# Altium schematic symbol library WE-LPCC.SchLib: 5 symbols
Pins are listed as number, name and electrical type; pins without a type are passive.

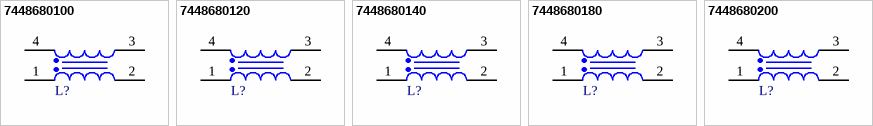
[diagram p0: symbols 7448680100 to 7448680200]

## 7448680100
designator L?, comment 450µH  (value not drawn)
WE-LPCC THT Common Mode Power Line Choke, 450µH, 9.5A, 9.6mΩ; Manufacturer Part Number: 7448680100; Manufacturer: Wurth Elektronik; Insulation Test Voltage (AC): 1500V; Material: MnZn; Rated Voltage (AC): 250V; ComponentLink1Description: Manufacturer Link; ComponentLink1URL: https://www.we-online.com/redexpert/article/7448680100?ad; ComponentLink2Description: Datasheet; ComponentLink2URL: https://www.we-online.com/redexpert/spec/7448680100?ad; Category: Common Mode Chokes; Match Code: WE-LPCC; Mount: Through Hole; Operating Temperature Max: 115°C; Operating Temperature Min: -40°C; Packaging: Tray; Length: 27.5mm; Width: 25mm; Height: 9.7mm; DC Resistance Max: 9.6mΩ; Inductance: 450µH; Rated Current: 9.5A
footprint 7448680100
pins: 1, 2, 3, 4

## 7448680120
designator L?, comment 330µH  (value not drawn)
WE-LPCC THT Common Mode Power Line Choke, 330µH, 12A, 6mΩ; Manufacturer Part Number: 7448680120; Manufacturer: Wurth Elektronik; Insulation Test Voltage (AC): 1500V; Material: MnZn; Rated Voltage (AC): 250V; ComponentLink1Description: Manufacturer Link; ComponentLink1URL: https://www.we-online.com/redexpert/article/7448680120?ad; ComponentLink2Description: Datasheet; ComponentLink2URL: https://www.we-online.com/redexpert/spec/7448680120?ad; Category: Common Mode Chokes; Match Code: WE-LPCC; Mount: Through Hole; Operating Temperature Max: 115°C; Operating Temperature Min: -40°C; Packaging: Tray; Length: 27.5mm; Width: 25mm; Height: 10mm; DC Resistance Max: 6mΩ; Inductance: 330µH; Rated Current: 12A
footprint 7448680120
pins: 1, 2, 3, 4

## 7448680140
designator L?, comment 230µH  (value not drawn)
WE-LPCC THT Common Mode Power Line Choke, 230µH, 16A, 3.6mΩ; Manufacturer Part Number: 7448680140; Manufacturer: Wurth Elektronik; Insulation Test Voltage (AC): 1500V; Material: MnZn; Rated Voltage (AC): 250V; ComponentLink1Description: Manufacturer Link; ComponentLink1URL: https://www.we-online.com/redexpert/article/7448680140?ad; ComponentLink2Description: Datasheet; ComponentLink2URL: https://www.we-online.com/redexpert/spec/7448680140?ad; Category: Common Mode Chokes; Match Code: WE-LPCC; Mount: Through Hole; Operating Temperature Max: 115°C; Operating Temperature Min: -40°C; Packaging: Tray; Length: 27.5mm; Width: 25mm; Height: 10.4mm; DC Resistance Max: 3.6mΩ; Inductance: 230µH; Rated Current: 16A
footprint 7448680140
pins: 1, 2, 3, 4

## 7448680180
designator L?, comment 150µH  (value not drawn)
WE-LPCC THT Common Mode Power Line Choke, 150µH, 20A, 1.9mΩ; Manufacturer Part Number: 7448680180; Manufacturer: Wurth Elektronik; Insulation Test Voltage (AC): 1500V; Material: MnZn; Rated Voltage (AC): 250V; ComponentLink1Description: Manufacturer Link; ComponentLink1URL: https://www.we-online.com/redexpert/article/7448680180?ad; ComponentLink2Description: Datasheet; ComponentLink2URL: https://www.we-online.com/redexpert/spec/7448680180?ad; Category: Common Mode Chokes; Match Code: WE-LPCC; Mount: Through Hole; Operating Temperature Max: 115°C; Operating Temperature Min: -40°C; Packaging: Tray; Length: 27.5mm; Width: 25mm; Height: 11.3mm; DC Resistance Max: 1.9mΩ; Inductance: 150µH; Rated Current: 20A
footprint 7448680180
pins: 1, 2, 3, 4

## 7448680200
designator L?, comment 120µH  (value not drawn)
WE-LPCC THT Common Mode Power Line Choke, 120µH, 23.5A, 1.4mΩ; Manufacturer Part Number: 7448680200; Manufacturer: Wurth Elektronik; Insulation Test Voltage (AC): 1500V; Material: MnZn; Rated Voltage (AC): 250V; ComponentLink1Description: Manufacturer Link; ComponentLink1URL: https://www.we-online.com/redexpert/article/7448680200?ad; ComponentLink2Description: Datasheet; ComponentLink2URL: https://www.we-online.com/redexpert/spec/7448680200?ad; Category: Common Mode Chokes; Match Code: WE-LPCC; Mount: Through Hole; Operating Temperature Max: 115°C; Operating Temperature Min: -40°C; Packaging: Tray; Length: 27.5mm; Width: 25mm; Height: 11.7mm; DC Resistance Max: 1.4mΩ; Inductance: 120µH; Rated Current: 23.5A
footprint 7448680200
pins: 1, 2, 3, 4